# Altium schematic symbol library 160901137.SchLib: 12 symbols
Pins are listed as number, name and electrical type; pins without a type are passive.

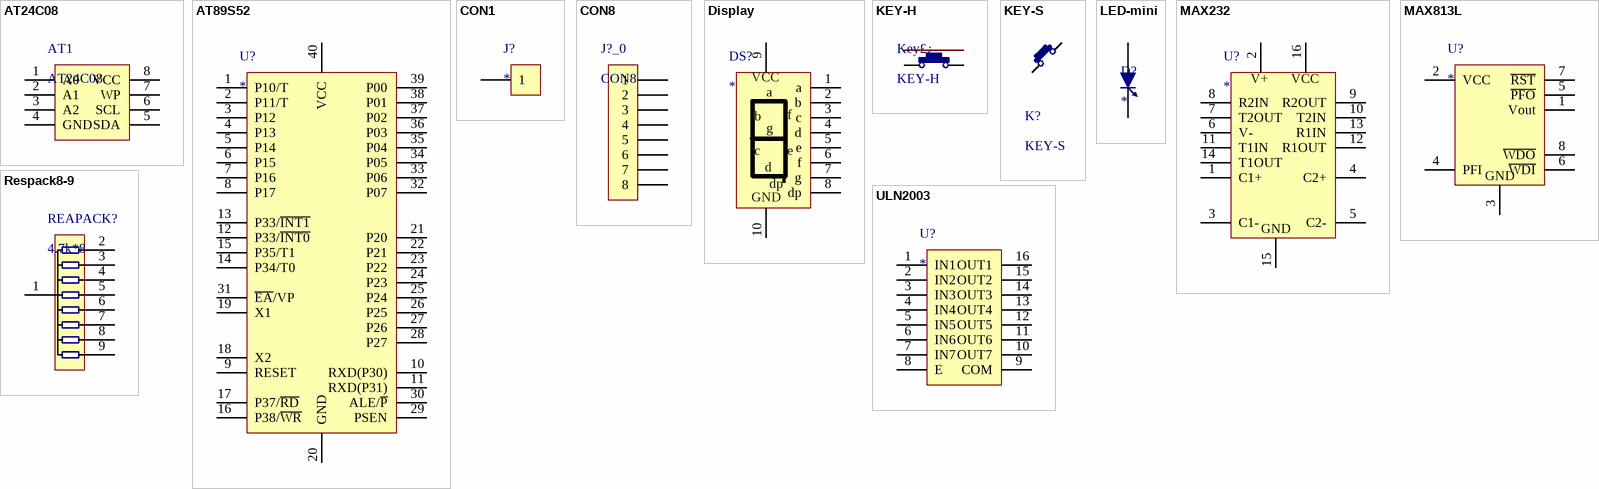
[diagram p0: symbols AT24C08 to ULN2003]

## AT24C08
designator AT1
footprint DIP-8 (Footprint not found)
pins: 1 A0, 2 A1, 3 A2, 4 GND, 5 SDA, 6 SCL, 7 WP, 8 VCC

## AT89S52
designator U?
footprint DIP-40 (DIP, 40-Pin, Row Spacing 15.24 mm, Pitch 2.54 mm)
pins: 1 P10/T, 2 P11/T, 3 P12, 4 P13, 5 P14, 6 P15, 7 P16, 8 P17, 9 RESET, 10 RXD(P30), 11 RXD(P31), 12 P33/~{INT0}, 13 P33/~{INT1}, 14 P34/T0, 15 P35/T1, 16 P38/~{WR}, 17 P37/~{RD}, 18 X2, 19 X1, 20 GND, 21 P20, 22 P21, 23 P22, 24 P23, 25 P24, 26 P25, 27 P26, 28 P27, 29 PSEN, 30 ALE/~{P}, 31 ~{EA}/VP, 32 P07, 33 P06, 34 P05, 35 P04, 36 P03, 37 P02, 38 P01, 39 P00, 40 VCC

## CON1
designator J?
footprint PIN1 (Footprint not found)
pins: 1

## CON8
designator J?_0
footprint HDR1X8 (Footprint not found)
pins: 1, 2, 3, 4, 5, 6, 7, 8

## Display
designator DS?
footprint DISPLAY (Footprint not found)
pins: 1 a, 2 b, 3 c, 4 d, 5 e, 6 f, 7 g, 8 dp, 9 VCC, 10 GND

## KEY-H
designator Key£¿
footprint KEY (Footprint not found)
pins: 1, 2, 3, 4

## KEY-S
designator K?
footprint KEY (Footprint not found)
pins: 1, 2, 3, 4

## LED-mini
designator D?
footprint RB0.1-0.2 (Footprint not found)
pins: 1 A, 2 K

## MAX232
designator U?
footprint DIP-16 (DIP, 16-Pin, Row Spacing 7.62 mm, Pitch 2.54 mm)
pins: 1 C1+, 2 V+, 3 C1-, 4 C2+, 5 C2-, 6 V-, 7 T2OUT, 8 R2IN, 9 R2OUT, 10 T2IN, 11 T1IN, 12 R1OUT, 13 R1IN, 14 T1OUT, 15 GND, 16 VCC

## MAX813L
designator U?
footprint DIP-8 (DIP, 8-Pin, Row Spacing 7.62 mm, Pitch 2.54 mm)
pins: 1 Vout, 2 VCC, 3 GND, 4 PFI, 5 ~{PFO}, 6 ~{WDI}, 7 ~{RST}, 8 ~{WDO}

## Respack8-9
designator REAPACK?, comment 4.7k*8
footprint HDR1X9 (Footprint not found)
pins: 1, 2, 3, 4, 5, 6, 7, 8, 9

## ULN2003
designator U?
footprint DIP-16 (DIP, 16-Pin, Row Spacing 7.62 mm, Pitch 2.54 mm)
pins: 1 IN1, 2 IN2, 3 IN3, 4 IN4, 5 IN5, 6 IN6, 7 IN7, 8 E, 9 COM, 10 OUT7, 11 OUT6, 12 OUT5, 13 OUT4, 14 OUT3, 15 OUT2, 16 OUT1